# Altium footprint library QFN_DFN.PcbLib: 70 footprints (part 5 of 5)
Each footprint in its own frame and in the unit in brackets; x right, y up, seen from the top. Pads: shape width x height; smd on the part's side, far side on the other; paste and mask are expansions set on the pad; w line width, h text height; cw(c..) or ccw(c..) is an arc to the next point about the centre after c.
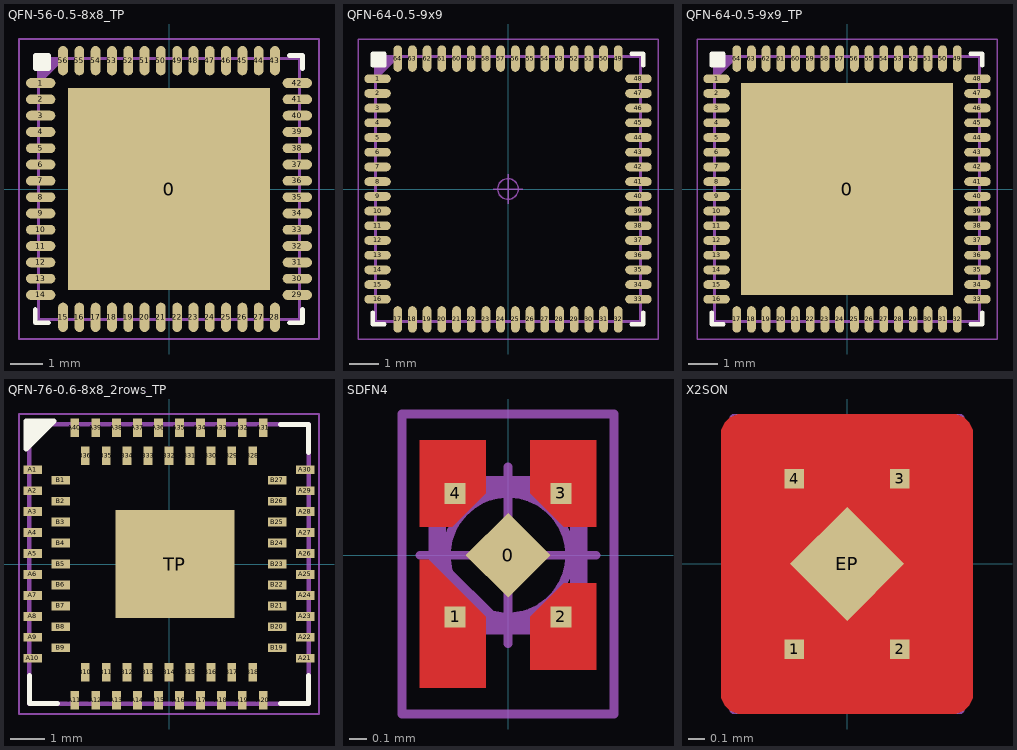
[diagram p4: the footprints below, top view; thin cyan lines are the x and y axes]

## QFN-56-0.5-8x8_TP [mm]
pads (57):
  rect 6.2x6.2 smd: 0(0,0)
  oval 0.9x0.3 smd: 1(-3.935,3.25) 2(-3.935,2.75) 3(-3.935,2.25) 4(-3.935,1.75) 5(-3.935,1.25) 6(-3.935,0.75) 7(-3.935,0.25) 8(-3.935,-0.25) 9(-3.935,-0.75) 10(-3.935,-1.25) 11(-3.935,-1.75) 12(-3.935,-2.25) 13(-3.935,-2.75) 14(-3.935,-3.25) 29(3.935,-3.25) 30(3.935,-2.75) 31(3.935,-2.25) 32(3.935,-1.75) 33(3.935,-1.25) 34(3.935,-0.75) 35(3.935,-0.25) 36(3.935,0.25) 37(3.935,0.75) 38(3.935,1.25) 39(3.935,1.75) 40(3.935,2.25) 41(3.935,2.75) 42(3.935,3.25)
  oval 0.3x0.9 smd: 15(-3.25,-3.935) 16(-2.75,-3.935) 17(-2.25,-3.935) 18(-1.75,-3.935) 19(-1.25,-3.935) 20(-0.75,-3.935) 21(-0.25,-3.935) 22(0.25,-3.935) 23(0.75,-3.935) 24(1.25,-3.935) 25(1.75,-3.935) 26(2.25,-3.935) 27(2.75,-3.935) 28(3.25,-3.935) 43(3.25,3.935) 44(2.75,3.935) 45(2.25,3.935) 46(1.75,3.935) 47(1.25,3.935) 48(0.75,3.935) 49(0.25,3.935) 50(-0.25,3.935) 51(-0.75,3.935) 52(-1.25,3.935) 53(-1.75,3.935) 54(-2.25,3.935) 55(-2.75,3.935) 56(-3.25,3.935)
Top Overlay:
  lines w0.15: -4.1,-3.7 -4.1,-4.1 -3.7,-4.1 ; -4,3.7 -4,4.1 ; -3.9,3.7 -3.9,4.1 ; -3.8,3.7 -3.8,4.1 ; 3.7,-4.1 4.1,-4.1 4.1,-3.7 ; 3.7,4.1 4.1,4.1 4.1,3.7 ; -4.1,3.7 -3.7,3.7 -3.7,4.1 -4.1,4.1 -4.1,3.7
ASM Top:
  region: -4,4 -4,3.2 -3.2,4
  lines w0.1: -4,-4 -4,4 4,4 4,-4 -4,-4
  text ".Designator" at -2.2,-0.45 h0.75
PNP Top:
  circle w0.05: c0,0 r0.35
  lines w0.05: -0.5,0 0.5,0 ; 0,-0.5 0,0.5 ; -4.6,-4.6 4.6,-4.6 4.6,4.6 -4.6,4.6 -4.6,-4.6
3D body "QFN-56-0.5.STEP": height 0.77, standoff 0, extent -4,-4 4,4

## QFN-64-0.5-9x9 [mm]
pads (64):
  oval 0.9x0.3 smd: 1(-4.435,3.75) 2(-4.435,3.25) 3(-4.435,2.75) 4(-4.435,2.25) 5(-4.435,1.75) 6(-4.435,1.25) 7(-4.435,0.75) 8(-4.435,0.25) 9(-4.435,-0.25) 10(-4.435,-0.75) 11(-4.435,-1.25) 12(-4.435,-1.75) 13(-4.435,-2.25) 14(-4.435,-2.75) 15(-4.435,-3.25) 16(-4.435,-3.75) 33(4.435,-3.75) 34(4.435,-3.25) 35(4.435,-2.75) 36(4.435,-2.25) 37(4.435,-1.75) 38(4.435,-1.25) 39(4.435,-0.75) 40(4.435,-0.25) 41(4.435,0.25) 42(4.435,0.75) 43(4.435,1.25) 44(4.435,1.75) 45(4.435,2.25) 46(4.435,2.75) 47(4.435,3.25) 48(4.435,3.75)
  oval 0.3x0.9 smd: 17(-3.75,-4.435) 18(-3.25,-4.435) 19(-2.75,-4.435) 20(-2.25,-4.435) 21(-1.75,-4.435) 22(-1.25,-4.435) 23(-0.75,-4.435) 24(-0.25,-4.435) 25(0.25,-4.435) 26(0.75,-4.435) 27(1.25,-4.435) 28(1.75,-4.435) 29(2.25,-4.435) 30(2.75,-4.435) 31(3.25,-4.435) 32(3.75,-4.435) 49(3.75,4.435) 50(3.25,4.435) 51(2.75,4.435) 52(2.25,4.435) 53(1.75,4.435) 54(1.25,4.435) 55(0.75,4.435) 56(0.25,4.435) 57(-0.25,4.435) 58(-0.75,4.435) 59(-1.25,4.435) 60(-1.75,4.435) 61(-2.25,4.435) 62(-2.75,4.435) 63(-3.25,4.435) 64(-3.75,4.435)
Top Overlay:
  lines w0.15: -4.6,-4.2 -4.6,-4.6 -4.2,-4.6 ; -4.5,4.2 -4.5,4.6 ; -4.4,4.2 -4.4,4.6 ; -4.3,4.2 -4.3,4.6 ; 4.2,-4.6 4.6,-4.6 4.6,-4.2 ; 4.2,4.6 4.6,4.6 4.6,4.2 ; -4.6,4.2 -4.2,4.2 -4.2,4.6 -4.6,4.6 -4.6,4.2
ASM Top:
  region: -4.5,4.5 -4.5,3.7 -3.7,4.5
  lines w0.1: -4.5,-4.5 4.5,-4.5 4.5,4.5 -4.5,4.5 -4.5,-4.5
  text ".Designator" at -2.4,-0.3 h0.75
PNP Top:
  circle w0.05: c0,0 r0.35
  lines w0.05: -0.5,0 0.5,0 ; 0,-0.5 0,0.5 ; -5.1,-5.1 -5.1,5.1 5.1,5.1 5.1,-5.1 -5.1,-5.1
3D body "QFN-64-0.5.STEP": height 0.9, standoff 0, extent -4.52,-4.52 4.52,4.52

## QFN-64-0.5-9x9_TP [mm]
pads (65):
  rect 7.2x7.2 smd: 0(0,0)
  oval 0.9x0.3 smd: 1(-4.435,3.75) 2(-4.435,3.25) 3(-4.435,2.75) 4(-4.435,2.25) 5(-4.435,1.75) 6(-4.435,1.25) 7(-4.435,0.75) 8(-4.435,0.25) 9(-4.435,-0.25) 10(-4.435,-0.75) 11(-4.435,-1.25) 12(-4.435,-1.75) 13(-4.435,-2.25) 14(-4.435,-2.75) 15(-4.435,-3.25) 16(-4.435,-3.75) 33(4.435,-3.75) 34(4.435,-3.25) 35(4.435,-2.75) 36(4.435,-2.25) 37(4.435,-1.75) 38(4.435,-1.25) 39(4.435,-0.75) 40(4.435,-0.25) 41(4.435,0.25) 42(4.435,0.75) 43(4.435,1.25) 44(4.435,1.75) 45(4.435,2.25) 46(4.435,2.75) 47(4.435,3.25) 48(4.435,3.75)
  oval 0.3x0.9 smd: 17(-3.75,-4.435) 18(-3.25,-4.435) 19(-2.75,-4.435) 20(-2.25,-4.435) 21(-1.75,-4.435) 22(-1.25,-4.435) 23(-0.75,-4.435) 24(-0.25,-4.435) 25(0.25,-4.435) 26(0.75,-4.435) 27(1.25,-4.435) 28(1.75,-4.435) 29(2.25,-4.435) 30(2.75,-4.435) 31(3.25,-4.435) 32(3.75,-4.435) 49(3.75,4.435) 50(3.25,4.435) 51(2.75,4.435) 52(2.25,4.435) 53(1.75,4.435) 54(1.25,4.435) 55(0.75,4.435) 56(0.25,4.435) 57(-0.25,4.435) 58(-0.75,4.435) 59(-1.25,4.435) 60(-1.75,4.435) 61(-2.25,4.435) 62(-2.75,4.435) 63(-3.25,4.435) 64(-3.75,4.435)
Top Overlay:
  lines w0.15: -4.6,-4.2 -4.6,-4.6 -4.2,-4.6 ; -4.5,4.2 -4.5,4.6 ; -4.4,4.2 -4.4,4.6 ; -4.3,4.2 -4.3,4.6 ; 4.2,-4.6 4.6,-4.6 4.6,-4.2 ; 4.2,4.6 4.6,4.6 4.6,4.2 ; -4.6,4.2 -4.2,4.2 -4.2,4.6 -4.6,4.6 -4.6,4.2
ASM Top:
  region: -4.5,4.5 -4.5,3.7 -3.7,4.5
  lines w0.1: -4.5,-4.5 4.5,-4.5 4.5,4.5 -4.5,4.5 -4.5,-4.5
  text ".Designator" at -1.95,-0.4 h0.75
PNP Top:
  circle w0.05: c0,0 r0.35
  lines w0.05: -0.5,0 0.5,0 ; 0,-0.5 0,0.5 ; -5.1,-5.1 -5.1,5.1 5.1,5.1 5.1,-5.1 -5.1,-5.1
3D body "QFN-64-0.5.STEP": height 0.9, standoff 0, extent -4.52,-4.52 4.52,4.52

## QFN-76-0.6-8x8_2rows_TP [mil] "Double Row QFN, 76-Leads, Body 8,00x8,00mm, Pitch 0,60mm, IPC Medium Density"
height 35.43
pads (77):
  rect 21x10 smd: A1(-153.71,106.3) A2(-153.71,82.68) A3(-153.71,59.06) A4(-153.71,35.43) A5(-153.71,11.81) A6(-153.71,-11.81) A7(-153.71,-35.43) A8(-153.71,-59.06) A9(-153.71,-82.68) A10(-153.71,-106.3) A21(153.71,-106.3) A22(153.71,-82.68) A23(153.71,-59.06) A24(153.71,-35.43) A25(153.71,-11.81) A26(153.71,11.81) A27(153.71,35.43) A28(153.71,59.06) A29(153.71,82.68) A30(153.71,106.3) B1(-122.05,94.49) B2(-122.05,70.87) B3(-122.05,47.24) B4(-122.05,23.62) B5(-122.05,0) B6(-122.05,-23.62) B7(-122.05,-47.24) B8(-122.05,-70.87) B9(-122.05,-94.49) B19(122.05,-94.49) B20(122.05,-70.87) B21(122.05,-47.24) B22(122.05,-23.62) B23(122.05,0) B24(122.05,23.62) B25(122.05,47.24) B26(122.05,70.87) B27(122.05,94.49)
  rect 10x21 smd: A11(-106.3,-153.71) A12(-82.68,-153.71) A13(-59.06,-153.71) A14(-35.43,-153.71) A15(-11.81,-153.71) A16(11.81,-153.71) A17(35.43,-153.71) A18(59.06,-153.71) A19(82.68,-153.71) A20(106.3,-153.71) A31(106.3,153.71) A32(82.68,153.71) A33(59.06,153.71) A34(35.43,153.71) A35(11.81,153.71) A36(-11.81,153.71) A37(-35.43,153.71) A38(-59.06,153.71) A39(-82.68,153.71) A40(-106.3,153.71) B10(-94.49,-122.05) B11(-70.87,-122.05) B12(-47.24,-122.05) B13(-23.62,-122.05) B14(0,-122.05) B15(23.62,-122.05) B16(47.24,-122.05) B17(70.87,-122.05) B18(94.49,-122.05) B28(94.49,122.05) B29(70.87,122.05) B30(47.24,122.05) B31(23.62,122.05) B32(0,122.05) B33(-23.62,122.05) B34(-47.24,122.05) B35(-70.87,122.05) B36(-94.49,122.05)
  rect 134x122 smd paste-118.11: TP(6.69,0)
Top Overlay:
  region: -161.42,129.92 -129.92,161.42 -161.42,161.42
  lines w5.91: -157.48,-125.98 -157.48,-157.48 -125.98,-157.48 ; 125.98,-157.48 157.48,-157.48 157.48,-125.98 ; 125.98,157.48 157.48,157.48 157.48,125.98 ; -161.42,129.92 -161.42,161.42 -129.92,161.42 -161.42,129.92
3D Top:
  lines w5: -157.48,-157.48 157.48,-157.48 157.48,157.48 -157.48,157.48 -157.48,-157.48
PNP Top:
  lines w1.97: -169.29,-169.29 169.29,-169.29 169.29,169.29 -169.29,169.29 -169.29,-169.29
3D body "QFN60P800X800X90-76N.step": height 35.43, standoff 0, extent -159.45,-159.45 159.45,159.45

## SDFN4 [mm]
pads (5):
  rect 0.34x0.34 smd rot 45: 0(0,0)
  rect 0.12x0.12 smd: 1(-0.3,-0.35) 2(0.3,-0.35) 3(0.3,0.35) 4(-0.3,0.35)
Top Layer:
  region: 0.5,-0.16 0.5,-0.65 0.125,-0.65 0.125,-0.35 0.315,-0.16
  region: -0.5,-0.025 -0.5,-0.75 -0.125,-0.75 -0.125,-0.35 -0.45,-0.025
  region: -0.5,0.16 -0.5,0.65 -0.125,0.65 -0.125,0.35 -0.315,0.16
  region: 0.5,0.16 0.5,0.65 0.125,0.65 0.125,0.35 0.315,0.16
Top Solder:
  region: -0.525,0.13 -0.525,0.675 -0.1,0.675 -0.1,0.33 -0.3,0.13
  region: 0.525,0.13 0.525,0.675 0.1,0.675 0.1,0.33 0.3,0.13
  region: -0.525,0 -0.525,-0.775 -0.1,-0.775 -0.1,-0.33 -0.43,0
  region: 0.525,-0.13 0.525,-0.675 0.1,-0.675 0.1,-0.33 0.3,-0.13
ASM Top:
  region: -0.4,-0.4 0,-0.4 -0.4,0
  lines w0.1: -0.4,-0.4 -0.4,0.4 0.4,0.4 0.4,-0.4 -0.4,-0.4
  text ".Designator" at -0.2,-0.1 h0.2
PNP Top:
  circle w0.05: c0,0 r0.35
  lines w0.05: -0.5,0 0.5,0 ; 0,-0.5 0,0.5 ; -0.6,-0.9 -0.6,0.8 0.6,0.8 0.6,-0.9 -0.6,-0.9
3D body: height 0.38, standoff 0, extent -0.4,-0.4 0.4,0.4

## X2SON [mm] "UDFN-4L"
pads (5):
  rect 0.12x0.12 smd mask+0.075: 1(-0.325,-0.525) 2(0.325,-0.525) 3(0.325,0.525) 4(-0.325,0.525)
  rect 0.5x0.5 smd rot 45: EP(0,0)
Top Layer:
  region: -0.6,0.18 -0.6,0.75 -0.15,0.75 -0.15,0.425 -0.395,0.18
  region: 0.6,0.18 0.6,0.75 0.15,0.75 0.15,0.425 0.395,0.18
  region: 0.6,-0.18 0.6,-0.75 0.15,-0.75 0.15,-0.425 0.395,-0.18
  pour cut-out: 0.774,-0.8 0.774,0.801 0.774,0.825 0.755,0.871 0.72,0.906 0.675,0.925 0.65,0.925 -0.649,0.925 -0.674,0.925 -0.72,0.906 -0.755,0.871 -0.774,0.825 -0.774,0.8 -0.774,-0.801 -0.775,-0.825 -0.756,-0.871 -0.72,-0.906 -0.675,-0.925 -0.65,-0.925 0.649,-0.925 0.674,-0.925 0.72,-0.906 0.755,-0.871 0.774,-0.825
  region: -0.6,-0.18 -0.6,-0.75 -0.15,-0.75 -0.15,-0.425 -0.395,-0.18
Top Solder:
  region: 0.65,0.125 0.65,0.8 0.1,0.8 0.1,0.4 0.375,0.125
  region: -0.65,0.125 -0.65,0.8 -0.1,0.8 -0.1,0.4 -0.375,0.125
  region: -0.65,-0.125 -0.65,-0.8 -0.1,-0.8 -0.1,-0.4 -0.375,-0.125
  region: 0.65,-0.125 0.65,-0.8 0.1,-0.8 0.1,-0.4 0.375,-0.125
ASM Top:
  region: -0.5,-0.5 0,-0.5 -0.5,0
  lines w0.1: -0.5,-0.5 0.5,-0.5 0.5,0.5 -0.5,0.5 -0.5,-0.5
  text ".Designator" at -0.3,-0.1 h0.2
PNP Top:
  circle w0.05: c0,0 r0.35
  lines w0.05: -0.5,0 0.5,0 ; 0,-0.5 0,0.5 ; -0.7,-0.9 0.7,-0.9 0.7,0.9 -0.7,0.9 -0.7,-0.9
3D body "PX2SON.STEP": height 0.35, standoff -0.01, extent -0.5,-0.5 0.5,0.5